# Altium footprint library 0430452427.PcbLib: 1 footprints
Each footprint in its own frame and in the unit in brackets; x right, y up, seen from the top. Pads: shape width x height; smd on the part's side, far side on the other; paste and mask are expansions set on the pad; w line width, h text height; cw(c..) or ccw(c..) is an arc to the next point about the centre after c.
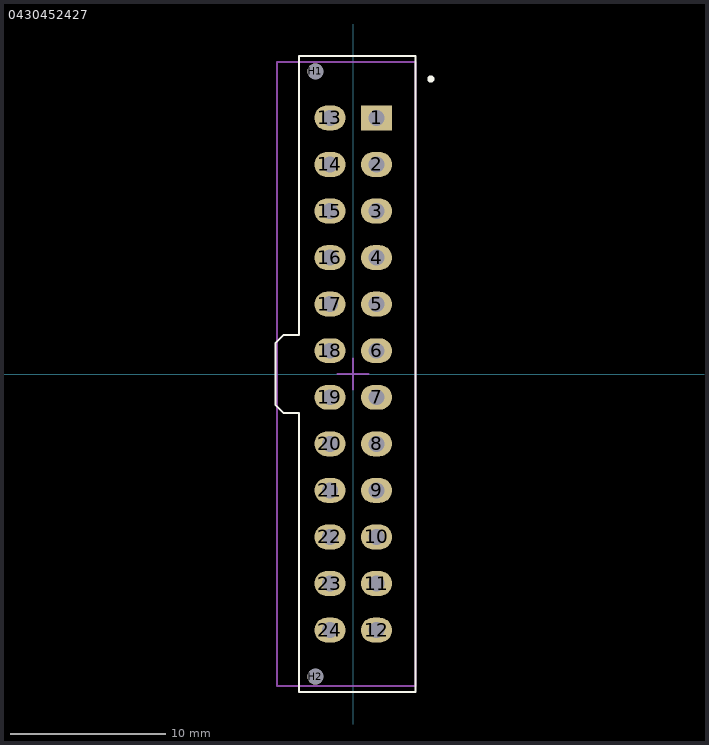
[diagram p0: the footprint, top view; thin cyan lines are the x and y axes]

## 0430452427 [mm]
height 9.91
pads (26):
  rect 2x1.6 hole 1.02: 1(1.5,16.5)
  oval 2x1.6 hole 1.02: 2(1.5,13.5) 3(1.5,10.5) 4(1.5,7.5) 5(1.5,4.5) 6(1.5,1.5) 7(1.5,-1.5) 8(1.5,-4.5) 9(1.5,-7.5) 10(1.5,-10.5) 11(1.5,-13.5) 12(1.5,-16.5) 13(-1.5,16.5) 14(-1.5,13.5) 15(-1.5,10.5) 16(-1.5,7.5) 17(-1.5,4.5) 18(-1.5,1.5) 19(-1.5,-1.5) 20(-1.5,-4.5) 21(-1.5,-7.5) 22(-1.5,-10.5) 23(-1.5,-13.5) 24(-1.5,-16.5)
  round 1.02 hole 1.02 unplated: H1(-2.44,19.5) H2(-2.44,-19.5)
Top Overlay:
  circle w0.254: c5,19 r0.1
  lines w0.127: -5,1 -5,-1 ; -5,-1 -5,-2 -4.5,-2.5 -3.5,-2.5 -3.5,-20 -3.5,-20.5 4,-20.5 4,-20 4,20 4,20.5 -3.5,20.5 -3.5,20 -3.5,2.5 -4.5,2.5 -5,2 -5,1.5 -5,-1
Mechanical 13 (Mech13):
  lines w0.127: -4.9,-20.1 4,-20.1 4,20.1 -4.9,20.1 -4.9,-20.1
Mechanical 15:
  lines w0.127: -1,0 0,0 ; 0,1 0,0 ; 0,0 1,0 0,0 ; 0,0 0,-1 0,0
3D body "430452427.stp": height 9.96, standoff -3.14, extent -4.83,-20.075 3.94,20.075